# Altium schematic symbol library NHD-3.12-25664UCB2.Schlib: 1 symbol
Pins are listed as number, name and electrical type; pins without a type are passive.

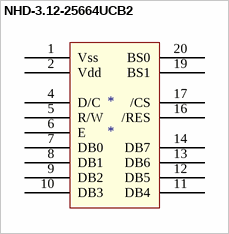
[diagram p0: symbol NHD-3.12-25664UCB2]

## NHD-3.12-25664UCB2
designator *
pins: 1 Vss, 2 Vdd, 4 D/C, 5 R/W, 6 E, 7 DB0, 8 DB1, 9 DB2, 10 DB3, 11 DB4, 12 DB5, 13 DB6, 14 DB7, 16 /RES, 17 /CS, 19 BS1, 20 BS0